# Altium schematic symbol library DIODO SCHOTTKY.Schlib: 1 symbol
Pins are listed as number, name and electrical type; pins without a type are passive.

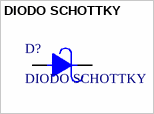
[diagram p0: symbol DIODO SCHOTTKY]

## DIODO SCHOTTKY
designator D?
pins: 1, 2